# EAGLE library part MT9V111_AUTOMOTIVE (library Traficon)
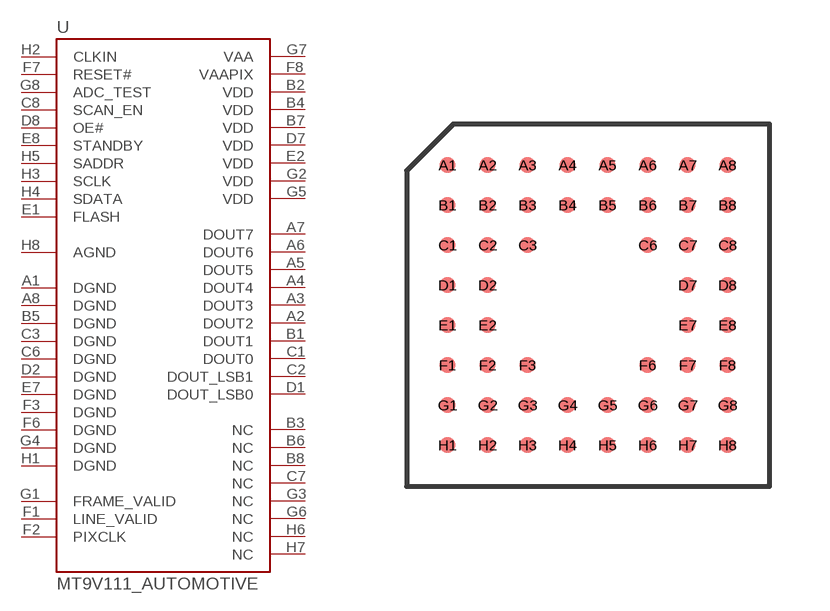
[diagram p182: symbol with the pads of IBGA52; footprint IBGA52]

Designator prefix U

## MT9V111_AUTOMOTIVE  [IBGA52]
A1  DGND  pwr
A2  DOUT2  out
A3  DOUT3  out
A4  DOUT4  out
A5  DOUT5  out
A6  DOUT6  out
A7  DOUT7  out
A8  DGND  pwr
B1  DOUT1  out
B2  VDD  pwr
B3  NC  nc
B4  VDD  pwr
B5  DGND  pwr
B6  NC  nc
B7  VDD  pwr
B8  NC  nc
C1  DOUT0  out
C2  DOUT_LSB1  out
C3  DGND  pwr
C6  DGND  pwr
C7  NC  nc
C8  SCAN_EN  in
D1  DOUT_LSB0  out
D2  DGND  pwr
D7  VDD  pwr
D8  OE#  in
E1  FLASH  out
E2  VDD  pwr
E7  DGND  pwr
E8  STANDBY  in
F1  LINE_VALID  out
F2  PIXCLK  out
F3  DGND  pwr
F6  DGND  pwr
F7  RESET#  in
F8  VAAPIX  pwr
G1  FRAME_VALID  out
G2  VDD  pwr
G3  NC  nc
G4  DGND  pwr
G5  VDD  pwr
G6  NC  nc
G7  VAA  pwr
G8  ADC_TEST  in
H1  DGND  pwr
H2  CLKIN  in
H3  SCLK  in
H4  SDATA
H5  SADDR  in
H6  NC  nc
H7  NC  nc
H8  AGND  pwr

## Footprint IBGA52 (pad centres in mm)
smd 0.4 x 0.4: A1 -3.5,3.5; A2 -2.5,3.5; A3 -1.5,3.5; A4 -0.5,3.5; A5 0.5,3.5; A6 1.5,3.5; A7 2.5,3.5; A8 3.5,3.5; B1 -3.5,2.5; B2 -2.5,2.5; B3 -1.5,2.5; B4 -0.5,2.5; B5 0.5,2.5; B6 1.5,2.5; B7 2.5,2.5; B8 3.5,2.5; C1 -3.5,1.5; C2 -2.5,1.5; C3 -1.5,1.5; C6 1.5,1.5; C7 2.5,1.5; C8 3.5,1.5; D1 -3.5,0.5; D2 -2.5,0.5; D7 2.5,0.5; D8 3.5,0.5; E1 -3.5,-0.5; E2 -2.5,-0.5; E7 2.5,-0.5; E8 3.5,-0.5; F1 -3.5,-1.5; F2 -2.5,-1.5; F3 -1.5,-1.5; F6 1.5,-1.5; F7 2.5,-1.5; F8 3.5,-1.5; G1 -3.5,-2.5; G2 -2.5,-2.5; G3 -1.5,-2.5; G4 -0.5,-2.5; G5 0.5,-2.5; G6 1.5,-2.5; G7 2.5,-2.5; G8 3.5,-2.5; H1 -3.5,-3.5; H2 -2.5,-3.5; H3 -1.5,-3.5; H4 -0.5,-3.5; H5 0.5,-3.5; H6 1.5,-3.5; H7 2.5,-3.5; H8 3.5,-3.5